# EAGLE library part PI33XX (library cyberhedz)
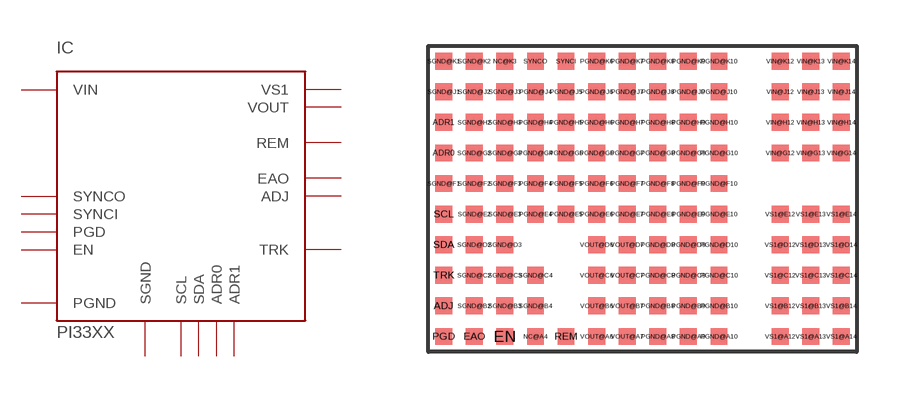
[diagram p4: symbol with the pads of PI33XX-LGA-SIP; footprint PI33XX-LGA-SIP]

Designator prefix IC

## PI33XX-LGA-123  [PI33XX-LGA-SIP]
ADJ  ADJ
ADR0  ADR0
ADR1  ADR1
EAO  EAO
EN  EN
PGD  PGD
PGND@A8  PGND
PGND@A9  PGND
PGND@A10  PGND
PGND@B8  PGND
PGND@B9  PGND
PGND@B10  PGND
PGND@C8  PGND
PGND@C9  PGND
PGND@C10  PGND
PGND@D8  PGND
PGND@D9  PGND
PGND@D10  PGND
PGND@E4  PGND
PGND@E5  PGND
PGND@E6  PGND
PGND@E7  PGND
PGND@E8  PGND
PGND@E9  PGND
PGND@E10  PGND
PGND@F4  PGND
PGND@F5  PGND
PGND@F6  PGND
PGND@F7  PGND
PGND@F8  PGND
PGND@F9  PGND
PGND@F10  PGND
PGND@G4  PGND
PGND@G5  PGND
PGND@G6  PGND
PGND@G7  PGND
PGND@G8  PGND
PGND@G9  PGND
PGND@G10  PGND
PGND@H4  PGND
PGND@H5  PGND
PGND@H6  PGND
PGND@H7  PGND
PGND@H8  PGND
PGND@H9  PGND
PGND@H10  PGND
PGND@J4  PGND
PGND@J5  PGND
PGND@J6  PGND
PGND@J7  PGND
PGND@J8  PGND
PGND@J9  PGND
PGND@J10  PGND
PGND@K6  PGND
PGND@K7  PGND
PGND@K8  PGND
PGND@K9  PGND
PGND@K10  PGND
REM  REM
SCL  SCL
SDA  SDA
SGND@B2  SGND
SGND@B3  SGND
SGND@B4  SGND
SGND@C2  SGND
SGND@C3  SGND
SGND@C4  SGND
SGND@D2  SGND
SGND@D3  SGND
SGND@E2  SGND
SGND@E3  SGND
SGND@F1  SGND
SGND@F2  SGND
SGND@F3  SGND
SGND@G2  SGND
SGND@G3  SGND
SGND@H2  SGND
SGND@H3  SGND
SGND@J1  SGND
SGND@J2  SGND
SGND@J3  SGND
SGND@K1  SGND
SGND@K2  SGND
SYNCI  SYNCI
SYNCO  SYNCO
TRK  TRK
VIN@G12  VIN
VIN@G13  VIN
VIN@G14  VIN
VIN@H12  VIN
VIN@H13  VIN
VIN@H14  VIN
VIN@J12  VIN
VIN@J13  VIN
VIN@J14  VIN
VIN@K12  VIN
VIN@K13  VIN
VIN@K14  VIN
VOUT@A6  VOUT
VOUT@A7  VOUT
VOUT@B6  VOUT
VOUT@B7  VOUT
VOUT@C6  VOUT
VOUT@C7  VOUT
VOUT@D6  VOUT
VOUT@D7  VOUT
VS1@A12  VS1
VS1@A13  VS1
VS1@A14  VS1
VS1@B12  VS1
VS1@B13  VS1
VS1@B14  VS1
VS1@C12  VS1
VS1@C13  VS1
VS1@C14  VS1
VS1@D12  VS1
VS1@D13  VS1
VS1@D14  VS1
VS1@E12  VS1
VS1@E13  VS1
VS1@E14  VS1

## Footprint PI33XX-LGA-SIP (pad centres in mm)
smd 0.55 x 0.55: ADJ -6.5,-3.5; ADR0 -6.5,1.5; ADR1 -6.5,2.5; EAO -5.5,-4.5; EN -4.5,-4.5; NC@A4 -3.5,-4.5; NC@K3 -4.5,4.5; PGD -6.5,-4.5; PGND@A8 0.5,-4.5; PGND@A9 1.5,-4.5; PGND@A10 2.5,-4.5; PGND@B8 0.5,-3.5; PGND@B9 1.5,-3.5; PGND@B10 2.5,-3.5; PGND@C8 0.5,-2.5; PGND@C9 1.5,-2.5; PGND@C10 2.5,-2.5; PGND@D8 0.5,-1.5; PGND@D9 1.5,-1.5; PGND@D10 2.5,-1.5; PGND@E4 -3.5,-0.5; PGND@E5 -2.5,-0.5; PGND@E6 -1.5,-0.5; PGND@E7 -0.5,-0.5; PGND@E8 0.5,-0.5; PGND@E9 1.5,-0.5; PGND@E10 2.5,-0.5; PGND@F4 -3.5,0.5; PGND@F5 -2.5,0.5; PGND@F6 -1.5,0.5; PGND@F7 -0.5,0.5; PGND@F8 0.5,0.5; PGND@F9 1.5,0.5; PGND@F10 2.5,0.5; PGND@G4 -3.5,1.5; PGND@G5 -2.5,1.5; PGND@G6 -1.5,1.5; PGND@G7 -0.5,1.5; PGND@G8 0.5,1.5; PGND@G9 1.5,1.5; PGND@G10 2.5,1.5; PGND@H4 -3.5,2.5; PGND@H5 -2.5,2.5; PGND@H6 -1.5,2.5; PGND@H7 -0.5,2.5; PGND@H8 0.5,2.5; PGND@H9 1.5,2.5; PGND@H10 2.5,2.5; PGND@J4 -3.5,3.5; PGND@J5 -2.5,3.5; PGND@J6 -1.5,3.5; PGND@J7 -0.5,3.5; PGND@J8 0.5,3.5; PGND@J9 1.5,3.5; PGND@J10 2.5,3.5; PGND@K6 -1.5,4.5; PGND@K7 -0.5,4.5; PGND@K8 0.5,4.5; PGND@K9 1.5,4.5; PGND@K10 2.5,4.5; REM -2.5,-4.5; SCL -6.5,-0.5; SDA -6.5,-1.5; SGND@B2 -5.5,-3.5; SGND@B3 -4.5,-3.5; SGND@B4 -3.5,-3.5; SGND@C2 -5.5,-2.5; SGND@C3 -4.5,-2.5; SGND@C4 -3.5,-2.5; SGND@D2 -5.5,-1.5; SGND@D3 -4.5,-1.5; SGND@E2 -5.5,-0.5; SGND@E3 -4.5,-0.5; SGND@F1 -6.5,0.5; SGND@F2 -5.5,0.5; SGND@F3 -4.5,0.5; SGND@G2 -5.5,1.5; SGND@G3 -4.5,1.5; SGND@H2 -5.5,2.5; SGND@H3 -4.5,2.5; SGND@J1 -6.5,3.5; SGND@J2 -5.5,3.5; SGND@J3 -4.5,3.5; SGND@K1 -6.5,4.5; SGND@K2 -5.5,4.5; SYNCI -2.5,4.5; SYNCO -3.5,4.5; TRK -6.5,-2.5; VIN@G12 4.5,1.5; VIN@G13 5.5,1.5; VIN@G14 6.5,1.5; VIN@H12 4.5,2.5; VIN@H13 5.5,2.5; VIN@H14 6.5,2.5; VIN@J12 4.5,3.5; VIN@J13 5.5,3.5; VIN@J14 6.5,3.5; VIN@K12 4.5,4.5; VIN@K13 5.5,4.5; VIN@K14 6.5,4.5; VOUT@A6 -1.5,-4.5; VOUT@A7 -0.5,-4.5; VOUT@B6 -1.5,-3.5; VOUT@B7 -0.5,-3.5; VOUT@C6 -1.5,-2.5; VOUT@C7 -0.5,-2.5; VOUT@D6 -1.5,-1.5; VOUT@D7 -0.5,-1.5; VS1@A12 4.5,-4.5; VS1@A13 5.5,-4.5; VS1@A14 6.5,-4.5; VS1@B12 4.5,-3.5; VS1@B13 5.5,-3.5; VS1@B14 6.5,-3.5; VS1@C12 4.5,-2.5; VS1@C13 5.5,-2.5; VS1@C14 6.5,-2.5; VS1@D12 4.5,-1.5; VS1@D13 5.5,-1.5; VS1@D14 6.5,-1.5; VS1@E12 4.5,-0.5; VS1@E13 5.5,-0.5; VS1@E14 6.5,-0.5